# EAGLE library part DRV8837 (library range_cape)
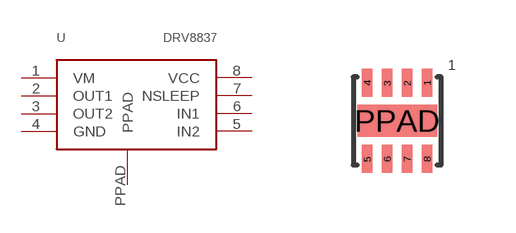
[diagram p5: symbol with the pads of WSON-8; footprint WSON-8]

Designator prefix -

## DRV8837  [WSON-8]
1  VM
2  OUT1
3  OUT2
4  GND
5  IN2
6  IN1
7  NSLEEP
8  VCC
PPAD  PPAD

## Footprint WSON-8 (pad centres in mm)
smd 0.27 x 0.7: 1 0.75,0.95; 2 0.25,0.95; 3 -0.25,0.95; 4 -0.75,0.95; 5 -0.75,-0.95; 6 -0.25,-0.95; 7 0.25,-0.95; 8 0.75,-0.95
smd 2 x 0.8: PPAD 0,0